# EAGLE library part PA0173 (library utesla)
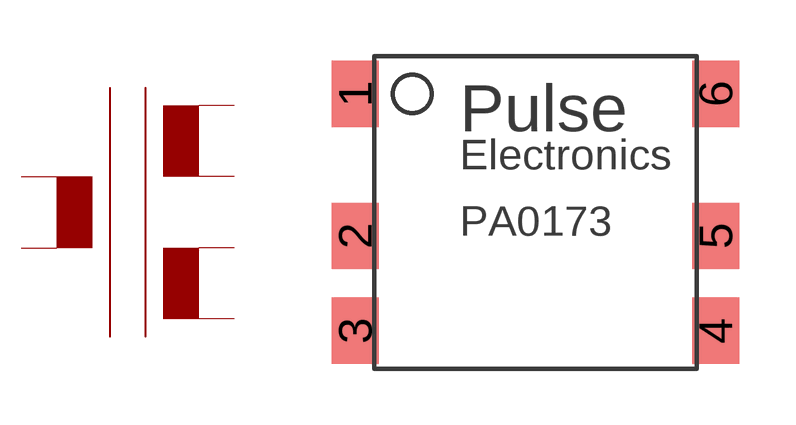
[diagram p8: symbol with the pads of PA0173; footprint PA0173]

Designator prefix -

## PA0173  [PA0173]
1  PRIA  in
2  SEC1A  out
3  SEC2A  out
4  SEC2B  out
5  SEC1B  out
6  PRIB  in

## Footprint PA0173 (pad centres in mm)
smd 1.27 x 1.778: 1 -4.826,3.556; 2 -4.826,-0.254; 3 -4.826,-2.794; 4 4.826,-2.794; 5 4.826,-0.254; 6 4.826,3.556